# Altium footprint library CYUSB3314.PcbLib: 32 footprints (part 1 of 2)
Each footprint in its own frame and in the unit in brackets; x right, y up, seen from the top. Pads: shape width x height; smd on the part's side, far side on the other; paste and mask are expansions set on the pad; w line width, h text height; cw(c..) or ccw(c..) is an arc to the next point about the centre after c.
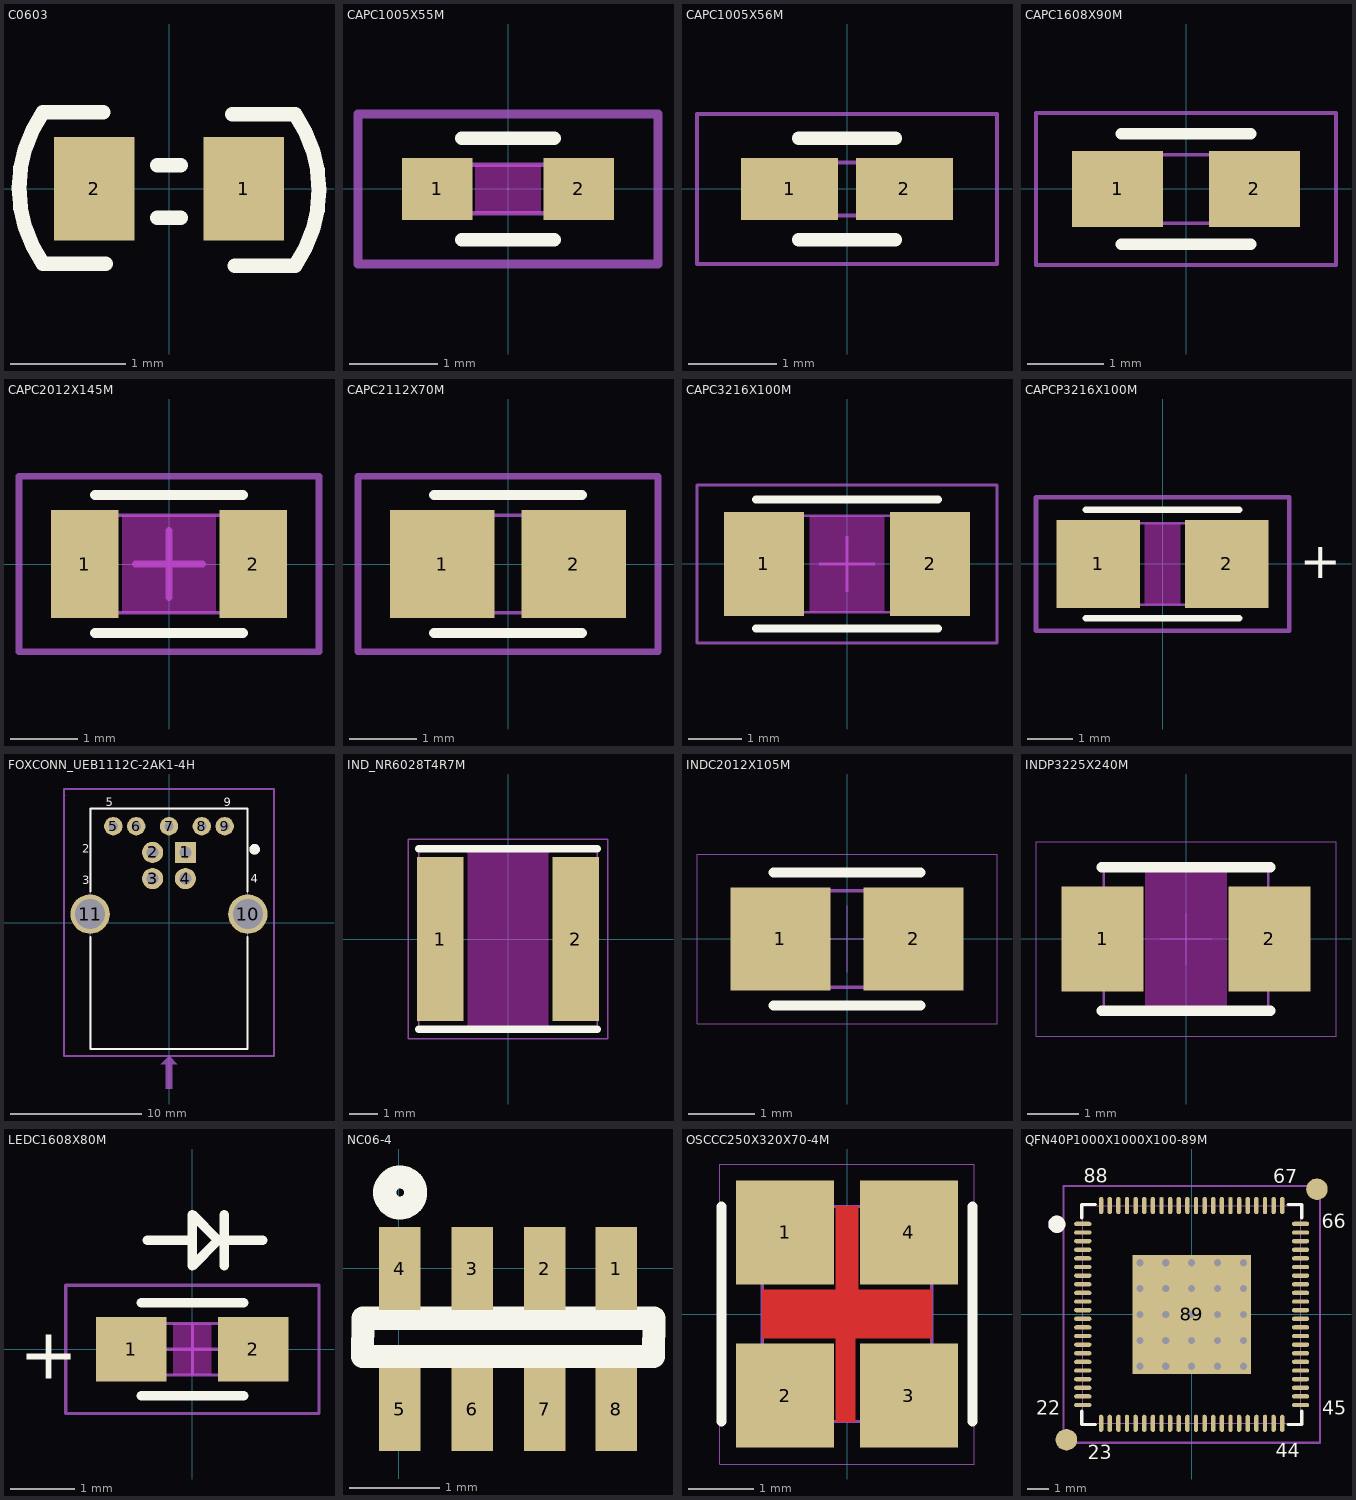
[diagram p0: the footprints below, top view; thin cyan lines are the x and y axes]

## C0603 [mm]
pads (2):
  rect 0.7x0.9 smd: 1(0.65,0) 2(-0.65,0)
Top Overlay:
  lines w0.127: -1.098,-0.654 -0.55,-0.654 ; -1.098,-0.65 cw(c-0.163,0.007) -1.098,0.664 ; -1.098,0.667 -0.575,0.667 ; -0.102,-0.254 0.102,-0.254 ; -0.102,0.204 0.102,0.204 ; 0.55,0.65 1.098,0.65 ; 0.575,-0.671 1.098,-0.671 ; 1.098,-0.668 ccw(c0.163,-0.01) 1.098,0.647

## CAPC1005X55M [mm]
height 0.55
pads (2):
  rect 0.8x0.7 smd mask+0: 1(-0.8,0) 2(0.8,0)
Top Layer keep-out:
  rectangle: -0.375,-0.275 0.375,0.275
Top Overlay:
  lines w0.15: -0.525,-0.575 0.525,-0.575 ; -0.525,0.575 0.525,0.575
  text ".Designator" at -4.05,1.35 h0.8
Mechanical 13:
  lines w0.05: -0.525,-0.275 0.525,-0.275 0.525,0.275 -0.525,0.275 -0.525,-0.275
  text ".Designator" at -4.047,-0.16 h0.8
Mechanical 14:
  text "R80_70" at -2.25,-2 h0.8
  text "CAPC1005X55M" at -4.5,2.5 h0.8
Mechanical 15:
  lines w0.1: -1.7,-0.85 1.7,-0.85 1.7,0.85 -1.7,0.85 -1.7,-0.85
3D body: height 0.55, standoff 0, extent -0.525,-0.275 0.525,0.275

## CAPC1005X56M [mm]
height 0.56
pads (2):
  rect 1.1x0.7 smd mask+0: 1(-0.65,0) 2(0.65,0)
Top Overlay:
  lines w0.15: -0.55,-0.575 0.55,-0.575 ; -0.55,0.575 0.55,0.575
  text ".Designator" at -3.893,1.944 h0.8
Mechanical 13:
  lines w0.05: -0.55,-0.3 -0.55,0.3 0.55,0.3 0.55,-0.3 -0.55,-0.3
  text ".Designator" at -3.975,-0.137 h0.8
Mechanical 14:
  text "R70_110" at -2.709,-2.922 h0.8
  text "CAPC1005X56M" at -4.673,3.165 h0.8
Mechanical 15:
  lines w0.05: -1.7,-0.85 -1.7,0.85 1.7,0.85 1.7,-0.85 -1.7,-0.85
3D body: height 0.56, standoff 0, extent -0.55,-0.3 0.55,0.3

## CAPC1608X90M [mm]
height 0.9
pads (2):
  rect 1.2x1 smd mask+0: 1(-0.9,0) 2(0.9,0)
Top Overlay:
  lines w0.15: -0.85,-0.725 0.85,-0.725 ; -0.85,0.725 0.85,0.725
  text ".Designator" at -4.006,1.665 h0.8
Mechanical 13:
  lines w0.05: -0.85,-0.45 0.85,-0.45 0.85,0.45 -0.85,0.45 -0.85,-0.45
  text ".Designator" at -4.069,-0.185 h0.8
Mechanical 14:
  text "R100_120" at -2.883,-3.483 h0.8
  text "CAPC1608X90M" at -4.373,3.933 h0.8
Mechanical 15:
  lines w0.05: -1.975,-1 1.975,-1 1.975,1 -1.975,1 -1.975,-1
3D body: height 0.9, standoff 0, extent -0.85,-0.45 0.85,0.45

## CAPC2012X145M [mm]
height 1.45
pads (2):
  rect 1x1.6 smd mask+0: 1(-1.25,0) 2(1.25,0)
Top Layer keep-out:
  rectangle: -0.7,-0.725 0.7,0.725
Top Overlay:
  lines w0.15: -1.1,-1.025 1.1,-1.025 ; -1.1,1.025 1.1,1.025
  text ".Designator" at -4.094,1.821 h0.8
Mechanical 13:
  lines w0.05: -1.1,-0.725 -1.1,0.725 1.1,0.725 1.1,-0.725 -1.1,-0.725
  text ".Designator" at -4.101,0.004 h0.8
Mechanical 14:
  text "R100_160" at -2.677,-3.143 h0.8
  text "CAPC2012X145M" at -4.343,3.147 h0.8
Mechanical 15:
  lines w0.1: -0.5,0 0.5,0 ; 0,-0.5 0,0.5 ; -2.225,-1.3 -2.225,1.3 2.225,1.3 2.225,-1.3 -2.225,-1.3
3D body: height 1.45, standoff 0, extent -1.1,-0.725 1.1,0.725

## CAPC2112X70M [mm] "Chip Capacitor, 2-Leads, Body 2.0x1.3mm, IPC Low Density"
height 0.7
pads (2):
  rect 1.55x1.6 smd paste+0 mask+0: 1(-0.975,0)
  rect 1.55x1.6 smd mask+0: 2(0.975,0)
Top Overlay:
  lines w0.15: -1.1,-1.025 1.1,-1.025 ; -1.1,1.025 1.1,1.025
  text ".Designator" at -3.915,2.37 h0.8
Mechanical 13:
  lines w0.05: -1.1,-0.725 -1.1,0.725 1.1,0.725 1.1,-0.725 -1.1,-0.725
  text ".Designator" at -4.416,-0.259 h0.8
Mechanical 14:
  text "CAPC2112X70M" at -4.369,4.149 h0.8
  text "R160_155" at -2.566,-3.286 h0.8
Mechanical 15:
  lines w0.1: -2.225,-1.3 -2.225,1.3 2.225,1.3 2.225,-1.3 -2.225,-1.3
3D body: height 0.7, standoff 0, extent -1.1,-0.725 1.1,0.725

## CAPC3216X100M [mm]
height 1
pads (2):
  rect 1.5x1.95 smd mask+0: 1(-1.55,0) 2(1.55,0)
Top Layer keep-out:
  rectangle: -0.7,-0.9 0.7,0.9
Top Overlay:
  lines w0.15: -1.7,-1.2 1.7,-1.2 ; -1.7,1.2 1.7,1.2
  text ".Designator" at -4.105,2.041 h0.8
Mechanical 13:
  lines w0.05: -1.7,-0.9 1.7,-0.9 1.7,0.9 -1.7,0.9 -1.7,-0.9
  text ".Designator" at -4.227,-0.111 h0.8
Mechanical 14:
  text "R150_195" at -2.96,-3.101 h0.8
  text "CAPC3216X100M" at -4.883,3.3 h0.8
Mechanical 15:
  lines w0.05: -0.5,0 0.5,0 ; 0,-0.5 0,0.5 ; -2.8,-1.475 2.8,-1.475 2.8,1.475 -2.8,1.475 -2.8,-1.475
3D body: height 1, standoff 0, extent -1.7,-0.9 1.7,0.9

## CAPCP3216X100M [mm]
height 1
pads (2):
  rect 1.85x1.95 smd mask+0: 1(-1.425,0) 2(1.425,0)
Top Layer keep-out:
  rectangle: -0.399,-0.9 0.401,0.9
Top Overlay:
  lines w0.15: -1.7,-1.2 1.7,-1.2 ; -1.7,1.2 1.7,1.2
  text ".Designator" at -3.961,2.005 h0.8
  text "+" at 3.04,-0.315 h0.8
Mechanical 13:
  lines w0.05: -1.7,-0.9 -1.7,0.9 1.7,0.9 1.7,-0.9 -1.7,-0.9
  text ".Designator" at -3.978,-0.213 h0.8
  text "+" at 3.043,-0.318 h0.8
Mechanical 14:
  text "R185_195" at -3.005,-3.565 h0.8
  text "CAPCP3216X100M" at -5.122,3.327 h0.8
Mechanical 15:
  lines w0.1: -2.8,-1.475 -2.8,1.475 2.8,1.475 2.8,-1.475 -2.8,-1.475
3D body: height 1, standoff 0, extent -1.7,-0.9 1.7,0.9

## FOXCONN_UEB1112C-2AK1-4H [mm]
height 12.9
pads (11):
  rect 1.62x1.62 / inner round 1.524 / far side round 1.524 hole 0.92 mask+0: 1(1.25,5.353)
  round 1.62 hole 0.92 mask+0: 2(-1.25,5.353) 3(-1.25,3.353) 4(1.25,3.353)
  round 1.4 hole 0.7 mask+0: 5(-4.25,7.353) 6(-2.5,7.353) 7(0,7.353) 8(2.5,7.353) 9(4.25,7.353)
  round 3 / inner round 1.524 / far side round 1.524 hole 2.3 mask+0: 10(6.02,0.643) 11(-6.02,0.643)
Top Overlay:
  circle w0.4: c6.531,5.588 r0.2
  lines w0.15: -6,-1.082 -6,-9.657 6,-9.657 6,-1.082 ; -6,2.368 -6,8.693 6,8.693 6,2.368
  text "4" at 6.223,3.048 h0.64
  text "3" at -6.604,2.921 h0.64
  text "2" at -6.604,5.334 h0.64
  text "5" at -4.826,8.89 h0.64
  text "9" at 4.191,8.89 h0.64
  text ".Designator" at -3.048,9.017 h0.64
Mechanical 13:
  circle w0.4: c6.531,5.588 r0.2
  region: -0.635,-10.795 -0.254,-10.795 -0.254,-12.7 0.254,-12.7 0.254,-10.795 0.635,-10.795 0,-10.16
  lines w0.05: -6,-9.657 6,-9.657 6,8.693 -6,8.693 -6,-9.657
  text ".Designator" at -3.175,0.127 h0.64
Mechanical 14:
  text "FOXCONN_UEB1112C-2AK1-4H" at -7.366,10.922 h0.64
Mechanical 15:
  lines w0.152: -8.03,9.652 -7.972,9.71 ; -8.03,10.192 -8.03,-10.192 8.03,-10.192 8.03,10.192 -7.972,10.192
Mechanical 16:
  text "S140H70" at -2.383,-10.974 h0.64
  text "C140H70" at -2.421,-12.33 h0.64
  text "C162H92" at -2.384,-13.65 h0.64
  text "C300H230" at -2.7,-15.043 h0.64
  text "FOXCONN_UEB1112C-2AK1-4H" at -7.246,11.75 h0.64
3D body: height 12.9, standoff 0, extent -5.999,-9.656 5.999,8.692

## IND_NR6028T4R7M [mm]
height 2.8
pads (2):
  rect 1.6x5.7 smd mask+0: 1(-2.35,0) 2(2.35,0)
Top Layer keep-out:
  rectangle: -1.4,-3.1 1.4,3.1
Top Overlay:
  lines w0.254: -3.1,-3.127 3.1,-3.127 ; -3.1,3.127 3.1,3.127
  text ".Designator" at -3.94,4.253 h0.8
Mechanical 13:
  lines w0.05: -3.1,-3.1 -3.1,3.1 3.1,3.1 3.1,-3.1 -3.1,-3.1
  text ".Designator" at -4.452,-0.208 h0.8
Mechanical 14:
  text "R160_570" at -3.122,-4.636 h0.8
  text "IND_NR6028T4R7M" at -5.574,5.604 h0.8
Mechanical 15:
  lines w0.05: -3.45,-3.45 3.45,-3.45 3.45,3.45 -3.45,3.45 -3.45,-3.45
3D body: height 2.8, standoff 0, extent -3.125,-3.125 3.125,3.125

## INDC2012X105M [mm] "Chip Resistor, 2-Leads, Body 2.0x1.3mm, IPC Low Density"
height 1.05
pads (2):
  rect 1.5x1.55 smd mask+0: 1(-1,0) 2(1,0)
Top Overlay:
  lines w0.15: -1.1,-1 1.1,-1 ; -1.1,1 1.1,1
  text ".Designator" at -4.219,1.87 h0.8
Mechanical 13:
  lines w0.05: -1.1,-0.725 -1.1,0.725 1.1,0.725 1.1,-0.725 -1.1,-0.725
  text ".Designator" at -4.164,-0.099 h0.8
Mechanical 14:
  text "INDC2012X105M" at -4.672,3.526 h0.8
  text "R155_150" at -2.865,-2.949 h0.8
Mechanical 15:
  lines w0.01: -0.5,0 0.5,0 ; 0,-0.5 0,0.5 ; -2.25,-1.275 -2.25,1.275 2.25,1.275 2.25,-1.275 -2.25,-1.275
3D body: height 1.05, standoff 0, extent -1.1,-0.725 1.1,0.725

## INDP3225X240M [mm]
height 2.4
pads (2):
  rect 1.6x2.05 smd mask+0: 1(-1.625,0) 2(1.625,0)
Top Layer keep-out:
  rectangle: -0.8,-1.4 0.8,1.35
Top Overlay:
  lines w0.2: -1.65,-1.4 1.65,-1.4 ; -1.65,1.4 1.65,1.4
  text ".Designator" at -4.059,2.446 h0.8
Mechanical 13:
  lines w0.05: -1.6,-1.35 -1.6,1.35 1.6,1.35 1.6,-1.35 -1.6,-1.35
  text ".Designator" at -4.219,-0.195 h0.8
Mechanical 14:
  text "INDP3225X240M" at -4.649,3.854 h0.8
  text "R205_160" at -2.848,-3.248 h0.8
Mechanical 15:
  lines w0.01: -0.5,0 0.5,0 ; 0,-0.5 0,0.5 ; -2.925,-1.9 -2.925,1.9 2.925,1.9 2.925,-1.9 -2.925,-1.9
3D body: height 2.4, standoff 0, extent -1.6,-1.35 1.6,1.35

## LEDC1608X80M [mm]
height 0.8
pads (2):
  rect 1.1x1 smd mask+0: 1(-0.95,0) 2(0.95,0)
Top Layer keep-out:
  rectangle: -0.3,-0.4 0.3,0.4
Top Overlay:
  lines w0.15: -0.8,-0.725 0.8,-0.725 ; -0.8,0.725 0.8,0.725 ; -0.7,1.7 0,1.7 ; 0.5,1.3 0.5,2.1 ; 1.1,1.7 0.4,1.7 ; 0,2.1 0,1.3 0.4,1.7 ; 0,2.1 0.4,1.7 ; 0,2.1 0,2.1
  text ".Designator" at -3.7,3.9 h0.8
  text "+" at -2.705,-0.463 h0.8
Mechanical 13:
  lines w0.05: -0.8,-0.4 -0.8,0.4 0.8,0.4 0.8,-0.4 -0.8,-0.4
  text ".Designator" at -4.003,-0.148 h0.8
  text "+" at -2.705,-0.463 h0.8
Mechanical 14:
  text "R110_100" at -2.851,-2.936 h0.8
  text "LEDC1608X80M" at -4.572,2.655 h0.8
Mechanical 15:
  lines w0.05: -0.4,0 0.4,0 ; 0,-0.4 0,0.4 ; -1.975,-1 -1.975,1 1.975,1 1.975,-1 -1.975,-1
3D body: height 0.8, standoff 0, extent -0.8,-0.4 0.8,0.4

## NC06-4 [mil]
pads (8):
  rect 18x36 smd: 1(94.4,-0.16) 2(63.39,-0.16) 3(31.9,-0.16) 4(0.4,-0.16) 5(0.4,-61.16) 6(31.9,-61.16) 7(63.39,-61.16) 8(94.4,-61.16)
Top Overlay:
  circle w10: c0.69,32.84 r6.71
  lines w10: -15.6,-38.16 110.4,-38.16 110.64,-21.67 -15.35,-21.67 -15.6,-38.16

## OSCCC250X320X70-4M [mm]
height 0.7
pads (4):
  rect 1.5x1.6 smd mask+0: 1(-0.95,1.25) 2(-0.95,-1.25) 3(0.95,-1.25) 4(0.95,1.25)
Top Layer:
  region: 0.175,1.65 0.175,0.375 1.3,0.375 1.3,-0.375 0.125,-0.375 0.125,-1.65 -0.175,-1.65 -0.175,-0.375 -1.3,-0.375 -1.3,0.375 -0.175,0.375 -0.175,1.65
Top Overlay:
  lines w0.15: -1.925,-1.65 -1.925,1.65 ; 1.925,-1.65 1.925,1.65
  text ".Designator" at -4.085,2.756 h0.8
Mechanical 13:
  lines w0.05: -1.3,-1.65 1.3,-1.65 1.3,1.65 -1.3,1.65 -1.3,-1.65
  text ".Designator" at -3.956,-0.152 h0.8
Mechanical 14:
  text "R150_160" at -3.016,-3.593 h0.8
  text "OSCCC250X320X70-4M" at -6.265,4.123 h0.8
Mechanical 15:
  lines w0.01: -1.95,-2.3 1.95,-2.3 1.95,2.3 -1.95,2.3 -1.95,-2.3
3D body: height 0.7, standoff 0, extent -1.325,-1.675 1.325,1.675

## QFN40P1000X1000X100-89M [mm] "QFN, 88-Leads, Body 10.1x10.1mm (max), Pitch 0.40mm, IPC Low Density"
height 1
pads (91):
  oval 0.8x0.2 smd mask+0: 1(-5.05,4.2) 2(-5.05,3.8) 3(-5.05,3.4) 4(-5.05,3) 5(-5.05,2.6) 6(-5.05,2.2) 7(-5.05,1.8) 8(-5.05,1.4) 9(-5.05,1) 10(-5.05,0.6) 11(-5.05,0.2) 12(-5.05,-0.2) 13(-5.05,-0.6) 14(-5.05,-1) 15(-5.05,-1.4) 16(-5.05,-1.8) 17(-5.05,-2.2) 18(-5.05,-2.6) 19(-5.05,-3) 20(-5.05,-3.4) 21(-5.05,-3.8) 22(-5.05,-4.2) 45(5.05,-4.2) 46(5.05,-3.8) 47(5.05,-3.4) 48(5.05,-3) 49(5.05,-2.6) 50(5.05,-2.2) 51(5.05,-1.8) 52(5.05,-1.4) 53(5.05,-1) 54(5.05,-0.6) 55(5.05,-0.2) 56(5.05,0.2) 57(5.05,0.6) 58(5.05,1) 59(5.05,1.4) 60(5.05,1.8) 61(5.05,2.2) 62(5.05,2.6) 63(5.05,3) 64(5.05,3.4) 65(5.05,3.8) 66(5.05,4.2)
  oval 0.2x0.8 smd mask+0: 23(-4.2,-5.05) 24(-3.8,-5.05) 25(-3.4,-5.05) 26(-3,-5.05) 27(-2.6,-5.05) 28(-2.2,-5.05) 29(-1.8,-5.05) 30(-1.4,-5.05) 31(-1,-5.05) 32(-0.6,-5.05) 33(-0.2,-5.05) 34(0.2,-5.05) 35(0.6,-5.05) 36(1,-5.05) 37(1.4,-5.05) 38(1.8,-5.05) 39(2.2,-5.05) 40(2.6,-5.05) 41(3,-5.05) 42(3.4,-5.05) 43(3.8,-5.05) 44(4.2,-5.05) 67(4.2,5.05) 68(3.8,5.05) 69(3.4,5.05) 70(3,5.05) 71(2.6,5.05) 72(2.2,5.05) 73(1.8,5.05) 74(1.4,5.05) 75(1,5.05) 76(0.6,5.05) 77(0.2,5.05) 78(-0.2,5.05) 79(-0.6,5.05) 80(-1,5.05) 81(-1.4,5.05) 82(-1.8,5.05) 83(-2.2,5.05) 84(-2.6,5.05) 85(-3,5.05) 86(-3.4,5.05) 87(-3.8,5.05) 88(-4.2,5.05)
  rect 5.5x5.5 smd mask+0: 89(0,0)
  round 1 smd mask+0.5: ""(-5.81,-5.81) ""(5.81,5.81)
via -2.4,2.4 diameter 0.66 hole 0.33
via -1.2,2.4 diameter 0.66 hole 0.33
via 0,2.4 diameter 0.66 hole 0.33
via 1.2,2.4 diameter 0.66 hole 0.33
via 2.4,2.4 diameter 0.66 hole 0.33
via -2.4,1.2 diameter 0.66 hole 0.33
via -1.2,1.2 diameter 0.66 hole 0.33
via 0,1.2 diameter 0.66 hole 0.33
via 1.2,1.2 diameter 0.66 hole 0.33
via 2.4,1.2 diameter 0.66 hole 0.33
via -2.4,0 diameter 0.66 hole 0.33
via -1.2,0 diameter 0.66 hole 0.33
via 0,0 diameter 0.66 hole 0.33
via 1.2,0 diameter 0.66 hole 0.33
via 2.4,0 diameter 0.66 hole 0.33
via -2.4,-1.2 diameter 0.66 hole 0.33
via -1.2,-1.2 diameter 0.66 hole 0.33
via 0,-1.2 diameter 0.66 hole 0.33
via 1.2,-1.2 diameter 0.66 hole 0.33
via 2.4,-1.2 diameter 0.66 hole 0.33
via -2.4,-2.4 diameter 0.66 hole 0.33
via -1.2,-2.4 diameter 0.66 hole 0.33
via 0,-2.4 diameter 0.66 hole 0.33
via 1.2,-2.4 diameter 0.66 hole 0.33
via 2.4,-2.4 diameter 0.66 hole 0.33
Top Overlay:
  circle w0.4: c-6.252,4.181 r0.2
  lines w0.15: -5.1,-4.475 -5.1,-5.1 -4.475,-5.1 ; -5.1,4.475 -5.1,5.1 -4.475,5.1 ; 4.475,-5.1 5.1,-5.1 5.1,-4.475 ; 4.475,5.1 5.1,5.1 5.1,4.475
  text ".Designator" at -3.931,7.075 h0.8
  text "22" at -7.22,-4.66 h0.64
  text "23" at -4.819,-6.707 h0.64
  text "44" at 3.892,-6.619 h0.64
  text "45" at 6.058,-4.646 h0.64
  text "66" at 6.042,4.005 h0.64
  text "67" at 3.775,6.092 h0.64
  text "88" at -5.003,6.115 h0.64
Mechanical 13:
  circle w0.4: c-6.252,4.187 r0.2
  lines w0.05: -5.05,-5.05 -5.05,5.05 5.05,5.05 5.05,-5.05 -5.05,-5.05
  text ".Designator" at -4.14,-0.317 h0.8
Mechanical 14:
  text "B80_20" at -2.081,-8.548 h0.8
  text "QFN40P1000X1000X100-89M" at -8.348,8.365 h0.8
Mechanical 15:
  lines w0.1: -0.5,0 0.5,0 ; 0,-0.5 0,0.5 ; -5.95,-5.95 -5.95,5.95 5.95,5.95 5.95,-5.95 -5.95,-5.95
3D body: height 1, standoff 0.05, extent -5.05,-5.05 5.05,5.05